# Altium schematic symbol library harting.SchLib: 1 symbol
Pins are listed as number, name and electrical type; pins without a type are passive.

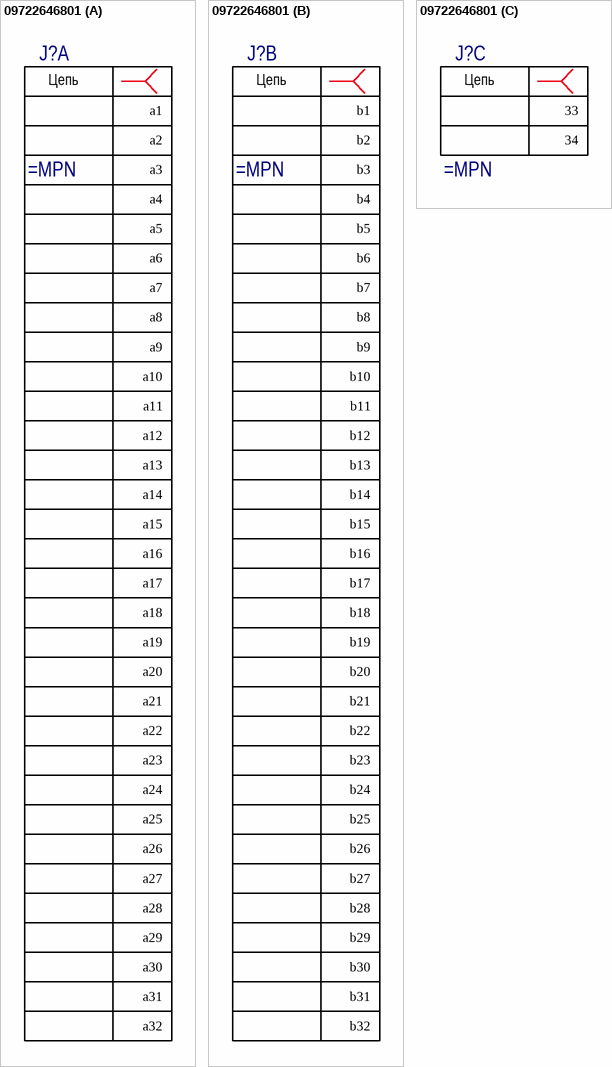
[diagram p0: symbol 09722646801]

## 09722646801
designator J?
Eurocard DIN 41612, Type Q, 64 Position, Rows a+b, Performance level 2, Female, Lead 3.0 mm, Pitch 2.54 mm; ComponentLink1Description: Manufacturer Link; ComponentLink1URL: http://www.harting.com/; ComponentLink2Description: Packaging Specification; ComponentLink2URL: http://www.harkis.harting.com/_gds/pdf/TB_0972264x801_BL01_R27592.pdf
part A pins: a1 "1", a2 "1", a3 "1", a4 "1", a5 "1", a6 "1", a7 "1", a8 "1", a9 "1", a10 "1", a11 "1", a12 "1", a13 "1", a14 "1", a15 "1", a16 "1", a17 "1", a18 "1", a19 "1", a20 "1", a21 "1", a22 "1", a23 "1", a24 "1", a25 "1", a26 "1", a27 "1", a28 "1", a29 "1", a30 "1", a31 "1", a32 "1"
part B pins: b1 "1", b2 "1", b3 "1", b4 "1", b5 "1", b6 "1", b7 "1", b8 "1", b9 "1", b10 "1", b11 "1", b12 "1", b13 "1", b14 "1", b15 "1", b16 "1", b17 "1", b18 "1", b19 "1", b20 "1", b21 "1", b22 "1", b23 "1", b24 "1", b25 "1", b26 "1", b27 "1", b28 "1", b29 "1", b30 "1", b31 "1", b32 "1"
part C pins: 33 "1", 34 "1"
part A text: Цепь
part B text: Цепь
part C text: Цепь